# Altium schematic symbol library Relays.SchLib: 4 symbols
Pins are listed as number, name and electrical type; pins without a type are passive.

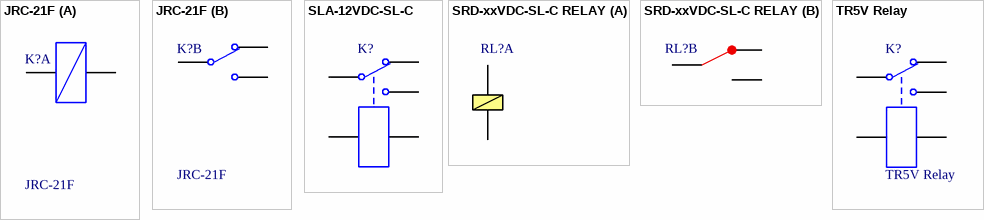
[diagram p0: symbols JRC-21F to TR5V Relay]

## JRC-21F
designator K?
Single-Pole Dual-Throw Relay; Coil Voltage: 12V; Max Current: 3A
simulation model SPDTRELAY (Spice Subcircuit)
footprint JRC-21F (PCB Relay)
part A pins: C1 4, C2 5
part B pins: COM 1, NC 2, NO 3

## SLA-12VDC-SL-C
designator K?  (value not drawn)
30A 12VDC SPST PCB Power relay; Max current: 30A; Coil voltage: 12VDC
footprint SLA-12VDC-SL-C (PCB mount, high-current relay)
pins: C1, C2, COM, NC, NO

## SRD-xxVDC-SL-C RELAY
designator RL?, comment 10A RELAY PCB  (value not drawn)
5,12,24VDC 10A PCB Relay
footprint RELAY C4
footprint SRD-xxVDC-SL-C (Relay)
part A pins: C1, C2
part B pins: COM, NC, NO

## TR5V Relay
designator K?
Single-Pole Dual-Throw Relay; Published: 24-Mar-1999; LatestRevisionDate: 17-Jul-2002; LatestRevisionNote: Re-released for DXP Platform.; PackageReference: MODULE5B; Publisher: Altium Limited
simulation model SPDTRELAY (Spice Subcircuit)
footprint TR5V (TR5V Relay)
pins: COIL0 4, COIL1 5, COM 1, NC 2, NO 3